# EAGLE library part 0522071233 (library 0522071233)
Easy-On Type FFC/FPC Connector, Right-Angle, Surface Mount, ZIF, Top Contact Style Receptacle, 12 Circuits, High Barrier Packaging Source: Datasheet <https://www.arrow.com/en/products/0522071233/molex>
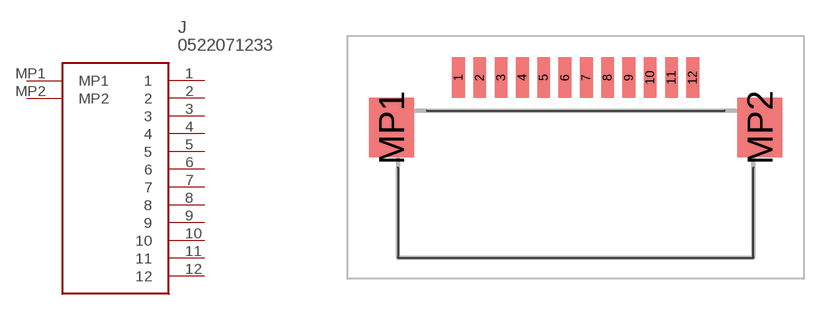
[diagram p0: symbol with the pads of 0522071233; footprint 0522071233]

Designator prefix J

## 0522071233 (Arrow_Part_Number: 0522071233; Arrow_Price-Stock: https://www.arrow.com/en/products/0522071233/molex; Description: Easy-On Type FFC/FPC Connector, Right-Angle, Surface Mount, ZIF, Top Contact Style Receptacle, 12 Circuits, High Barrier Packaging; Height: 2.9mm; Manufacturer_Name: Molex; Manufacturer_Part_Number: 0522071233)  [0522071233]
1  1
2  2
3  3
4  4
5  5
6  6
7  7
8  8
9  9
10  10
11  11
12  12
MP1  MP1
MP2  MP2

## Footprint 0522071233 (pad centres in mm)
0522071233-1
smd 0.6 x 1.9: 1 -5.5,0.95; 2 -4.5,0.95; 3 -3.5,0.95; 4 -2.5,0.95; 5 -1.5,0.95; 6 -0.5,0.95; 7 0.5,0.95; 8 1.5,0.95; 9 2.5,0.95; 10 3.5,0.95; 11 4.5,0.95; 12 5.5,0.95
smd 2.1 x 2.8: MP1 -8.65,-1.4; MP2 8.65,-1.4